# Altium footprint library PcbLib1.PcbLib: 30 footprints (part 2 of 2)
Each footprint in its own frame and in the unit in brackets; x right, y up, seen from the top. Pads: shape width x height; smd on the part's side, far side on the other; paste and mask are expansions set on the pad; w line width, h text height; cw(c..) or ccw(c..) is an arc to the next point about the centre after c.
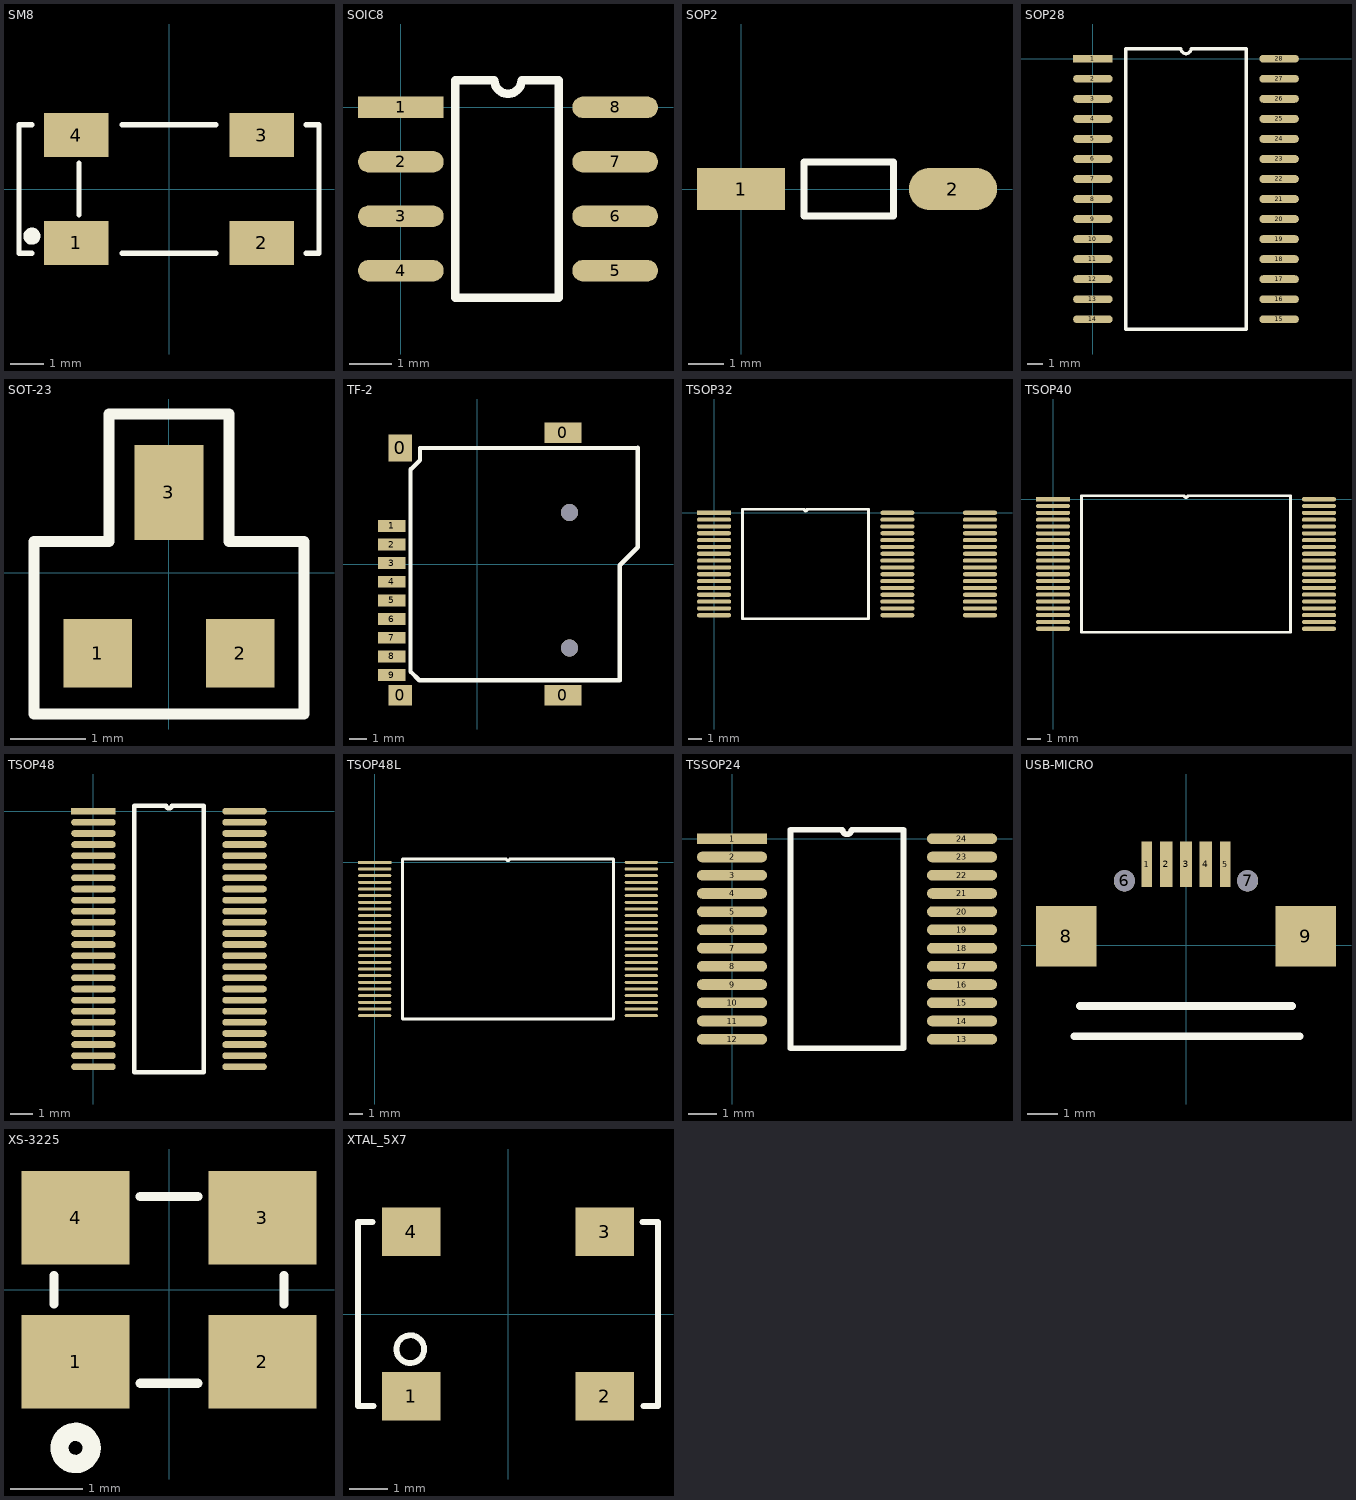
[diagram p1: the footprints below, top view; thin cyan lines are the x and y axes]

## SM8 [mm]
pads (4):
  rect 1.9x1.3 smd: 1(-2.75,-1.6) 2(2.75,-1.6) 3(2.75,1.6) 4(-2.75,1.6)
Top Overlay:
  circle w0.254: c-4.064,-1.397 r0.127
  lines w0.152: -4.064,-1.905 -4.445,-1.905 -4.445,1.905 -4.064,1.905 ; -2.667,-0.762 -2.667,0.762 ; -1.397,-1.905 1.397,-1.905 ; -1.397,1.905 1.397,1.905 ; 4.064,-1.905 4.445,-1.905 4.445,-1.651 4.445,1.651 4.445,1.905 4.064,1.905

## SOIC8 [mm]
pads (8):
  rect 2x0.5 smd: 1(0,0)
  oval 2x0.5 smd: 2(0,-1.27) 3(0,-2.54) 4(0,-3.81) 5(5,-3.81) 6(5,-2.54) 7(5,-1.27) 8(5,0)
Top Overlay:
  lines w0.2: 1.27,-4.445 3.683,-4.445 3.683,0.635 2.818,0.635 cw(c2.5,0.635) 2.183,0.635 1.27,0.635 1.27,-4.445

## SOP2 [mm]
pads (2):
  rect 2.5x1.2 smd: 1(0,0)
  oval 2.5x1.2 smd: 2(6,0)
Top Overlay:
  lines w0.2: 1.778,-0.762 4.318,-0.762 4.318,0.762 1.778,0.762 1.778,-0.762

## SOP28 [mm]
pads (28):
  rect 2.5x0.5 smd: 1(0,0)
  oval 2.5x0.5 smd: 2(0,-1.27) 3(0,-2.54) 4(0,-3.81) 5(0,-5.08) 6(0,-6.35) 7(0,-7.62) 8(0,-8.89) 9(0,-10.16) 10(0,-11.43) 11(0,-12.7) 12(0,-13.97) 13(0,-15.24) 14(0,-16.51) 15(11.8,-16.51) 16(11.8,-15.24) 17(11.8,-13.97) 18(11.8,-12.7) 19(11.8,-11.43) 20(11.8,-10.16) 21(11.8,-8.89) 22(11.8,-7.62) 23(11.8,-6.35) 24(11.8,-5.08) 25(11.8,-3.81) 26(11.8,-2.54) 27(11.8,-1.27) 28(11.8,0)
Top Overlay:
  lines w0.2: 2.085,-17.145 9.715,-17.145 9.715,0.635 6.217,0.635 cw(c5.9,0.635) 5.582,0.635 2.085,0.635 2.085,-17.145

## SOT-23 [mil]
pads (3):
  rect 36x36 smd: 1(-37.4,-42.18) 2(37.4,-42.18)
  rect 36x50 smd: 3(0,42.18)
Top Overlay:
  lines w5.91: -70.87,-74.11 70.87,-74.11 70.87,16.44 31.5,16.44 31.5,83.37 -31.5,83.37 -31.5,16.44 -70.87,16.44 -70.87,-74.11
3D body: height 43, standoff 0, extent -55,-51 55,45

## TF-2 [mm]
pads (13):
  rect 1.4x1.2 smd: 0(-4.55,-7.75)
  rect 1.4x1.6 smd: 0(-4.55,6.85)
  rect 2.2x1.2 smd: 0(5.05,-7.75) 0(5.05,7.75)
  rect 1.6x0.7 smd: 1(-5.05,2.25) 2(-5.05,1.15) 3(-5.05,0.05) 4(-5.05,-1.05) 5(-5.05,-2.15) 6(-5.05,-3.25) 7(-5.05,-4.35) 8(-5.05,-5.45) 9(-5.05,-6.55)
via 5.45,-4.95 diameter 1 hole 1
via 5.45,3.05 diameter 1 hole 1
Top Overlay:
  lines w0.254: -3.937,-6.35 -3.429,-6.858 8.382,-6.858 8.403,-6.879 8.403,-0.079 9.47,0.988 9.47,6.864 -3.383,6.848 -3.383,6.118 -3.913,5.588 -3.937,5.588 -3.937,-6.35

## TSOP32 [mm]
pads (48):
  rect 2.5x0.3 smd: 1(0,0)
  oval 2.5x0.3 smd: 2(0,-0.5) 3(0,-1) 4(0,-1.5) 5(0,-2) 6(0,-2.5) 7(0,-3) 8(0,-3.5) 9(0,-4) 10(0,-4.5) 11(0,-5) 12(0,-5.5) 13(0,-6) 14(0,-6.5) 15(0,-7) 16(0,-7.5) 17(13.412,-7.5) 17(19.457,-7.5) 18(13.412,-7) 18(19.457,-7) 19(13.412,-6.5) 19(19.457,-6.5) 20(13.412,-6) 20(19.457,-6) 21(13.412,-5.5) 21(19.457,-5.5) 22(13.412,-5) 22(19.457,-5) 23(13.412,-4.5) 23(19.457,-4.5) 24(13.412,-4) 24(19.457,-4) 25(13.412,-3.5) 25(19.457,-3.5) 26(13.412,-3) 26(19.457,-3) 27(13.412,-2.5) 27(19.457,-2.5) 28(13.412,-2) 28(19.457,-2) 29(13.412,-1.5) 29(19.457,-1.5) 30(13.412,-1) 30(19.457,-1) 31(13.412,-0.5) 31(19.457,-0.5) 32(13.412,0) 32(19.457,0)
Top Overlay:
  lines w0.2: 6.579,0.25 2.085,0.25 2.085,-7.75 11.303,-7.75 11.303,0.25 6.807,0.25 ; 6.581,0.254 ccw(c6.706,0.254) 6.831,0.254

## TSOP40 [mm]
pads (40):
  rect 2.5x0.3 smd: 1(0,0)
  oval 2.5x0.3 smd: 2(0,-0.5) 3(0,-1) 4(0,-1.5) 5(0,-2) 6(0,-2.5) 7(0,-3) 8(0,-3.5) 9(0,-4) 10(0,-4.5) 11(0,-5) 12(0,-5.5) 13(0,-6) 14(0,-6.5) 15(0,-7) 16(0,-7.5) 17(0,-8) 18(0,-8.5) 19(0,-9) 20(0,-9.5) 21(19.5,-9.5) 22(19.5,-9) 23(19.5,-8.5) 24(19.5,-8) 25(19.5,-7.5) 26(19.5,-7) 27(19.5,-6.5) 28(19.5,-6) 29(19.5,-5.5) 30(19.5,-5) 31(19.5,-4.5) 32(19.5,-4) 33(19.5,-3.5) 34(19.5,-3) 35(19.5,-2.5) 36(19.5,-2) 37(19.5,-1.5) 38(19.5,-1) 39(19.5,-0.5) 40(19.5,0)
Top Overlay:
  lines w0.2: 2.085,-9.75 17.415,-9.75 17.415,0.25 9.875,0.25 cw(c9.75,0.25) 9.625,0.25 2.085,0.25 2.085,-9.75

## TSOP48 [mm]
pads (48):
  rect 2x0.3 smd: 1(0,0)
  oval 2x0.3 smd: 2(0,-0.5) 3(0,-1) 4(0,-1.5) 5(0,-2) 6(0,-2.5) 7(0,-3) 8(0,-3.5) 9(0,-4) 10(0,-4.5) 11(0,-5) 12(0,-5.5) 13(0,-6) 14(0,-6.5) 15(0,-7) 16(0,-7.5) 17(0,-8) 18(0,-8.5) 19(0,-9) 20(0,-9.5) 21(0,-10) 22(0,-10.5) 23(0,-11) 24(0,-11.5) 25(6.8,-11.5) 26(6.8,-11) 27(6.8,-10.5) 28(6.8,-10) 29(6.8,-9.5) 30(6.8,-9) 31(6.8,-8.5) 32(6.8,-8) 33(6.8,-7.5) 34(6.8,-7) 35(6.8,-6.5) 36(6.8,-6) 37(6.8,-5.5) 38(6.8,-5) 39(6.8,-4.5) 40(6.8,-4) 41(6.8,-3.5) 42(6.8,-3) 43(6.8,-2.5) 44(6.8,-2) 45(6.8,-1.5) 46(6.8,-1) 47(6.8,-0.5) 48(6.8,0)
Top Overlay:
  lines w0.2: 1.835,-11.75 4.965,-11.75 4.965,0.25 3.525,0.25 cw(c3.4,0.25) 3.275,0.25 1.835,0.25 1.835,-11.75

## TSOP48L [mm]
pads (48):
  rect 2.5x0.23 smd: 1(0,0)
  oval 2.5x0.23 smd: 2(0,-0.5) 3(0,-1) 4(0,-1.5) 5(0,-2) 6(0,-2.5) 7(0,-3) 8(0,-3.5) 9(0,-4) 10(0,-4.5) 11(0,-5) 12(0,-5.5) 13(0,-6) 14(0,-6.5) 15(0,-7) 16(0,-7.5) 17(0,-8) 18(0,-8.5) 19(0,-9) 20(0,-9.5) 21(0,-10) 22(0,-10.5) 23(0,-11) 24(0,-11.5) 25(20,-11.5) 26(20,-11) 27(20,-10.5) 28(20,-10) 29(20,-9.5) 30(20,-9) 31(20,-8.5) 32(20,-8) 33(20,-7.5) 34(20,-7) 35(20,-6.5) 36(20,-6) 37(20,-5.5) 38(20,-5) 39(20,-4.5) 40(20,-4) 41(20,-3.5) 42(20,-3) 43(20,-2.5) 44(20,-2) 45(20,-1.5) 46(20,-1) 47(20,-0.5) 48(20,0)
Top Overlay:
  lines w0.2: 2.085,-11.75 2.085,0.25 9.875,0.25 ccw(c10,0.25) 10.125,0.25 17.915,0.25 17.915,-11.75 2.085,-11.75

## TSSOP24 [mm]
pads (24):
  rect 2.5x0.38 smd: 1(0,0)
  oval 2.5x0.38 smd: 2(0,-0.65) 3(0,-1.3) 4(0,-1.95) 5(0,-2.6) 6(0,-3.25) 7(0,-3.9) 8(0,-4.55) 9(0,-5.2) 10(0,-5.85) 11(0,-6.5) 12(0,-7.15) 13(8.2,-7.15) 14(8.2,-6.5) 15(8.2,-5.85) 16(8.2,-5.2) 17(8.2,-4.55) 18(8.2,-3.9) 19(8.2,-3.25) 20(8.2,-2.6) 21(8.2,-1.95) 22(8.2,-1.3) 23(8.2,-0.65) 24(8.2,0)
Top Overlay:
  lines w0.2: 2.085,-7.475 6.115,-7.475 6.115,0.325 4.262,0.325 cw(c4.1,0.325) 3.938,0.325 2.085,0.325 2.085,-7.475

## USB-MICRO [mm]
pads (9):
  rect 0.35x1.5 smd: 1(-1.3,2.675) 5(1.3,2.675)
  rect 0.4x1.5 smd: 2(-0.65,2.675) 3(0,2.675) 4(0.65,2.675)
  round 0.7 hole 0.7 unplated: 6(-2.032,2.134) 7(2.032,2.134)
  rect 2x2 smd: 8(-3.95,0.3) 9(3.95,0.3)
Top Overlay:
  lines w0.254: -3.683,-3 3.75,-3 ; -3.5,-2 3.5,-2

## XS-3225 [mm]
pads (4):
  rect 1.5x1.3 smd: 1(-1.3,-1) 2(1.3,-1) 3(1.3,1) 4(-1.3,1)
Top Overlay:
  circle w0.254: c-1.3,-2.2 r0.224
  lines w0.127: -1.6,-0.2 -1.6,0.2 ; -0.4,-1.3 0.4,-1.3 ; -0.4,1.3 0.4,1.3 ; 1.6,-0.2 1.6,0.2

## XTAL_5X7 [mil]
pads (4):
  rect 60x50 smd: 1(-100,-85) 2(100,-85) 3(100,85) 4(-100,85)
Top Overlay:
  circle w6: c-101,-36.32 r14.32
  lines w6: -140,95 -155,95 -155,-95 -139,-95 ; 139,95 155,95 155,-95 140,-95